# Altium schematic symbol library LARS_409_ACDC.SCHLIB: 4 symbols
Pins are listed as number, name and electrical type; pins without a type are passive.

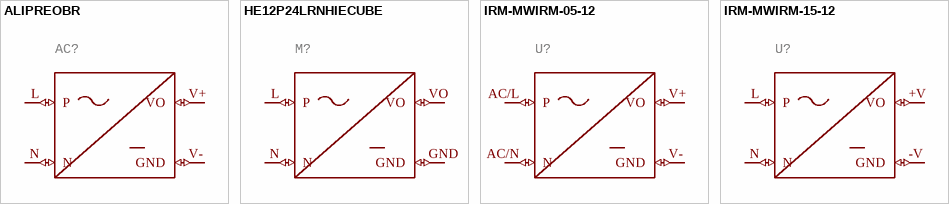
[diagram p0: symbols ALIPREOBR to IRM-MWIRM-15-12]

## ALIPREOBR
designator AC?
GateName_1: G$1; SymbolName_1: ACDC-4PIN; DeviceSetName: ALIPREOBR; LibraryName: LARS_409_ACDC; Package: ALI
footprint ALI
pins: L P (io), N (io), V+ VO (io), V- GND (io)

## HE12P24LRNHIECUBE
designator M?
GateName_1: G$1; SymbolName_1: ACDC-4PIN; DeviceName: HIECUBE; DeviceSetName: HE12P24LRN; LibraryName: LARS_409_ACDC; Package: HECUBE12P24LRN
footprint HECUBE12P24LRN
pins: GND (io), L P (io), N (io), VO (io)

## IRM-MWIRM-05-12
designator U?
GateName_1: G$1; SymbolName_1: ACDC-4PIN; DeviceName: IRM-05-12; DeviceSetName: IRM-MW; LibraryName: LARS_409_ACDC; Package: IRM-05-12
footprint IRM-05-12
pins: AC/L P (io), AC/N N (io), V+ VO (io), V- GND (io)

## IRM-MWIRM-15-12
designator U?
GateName_1: G$1; SymbolName_1: ACDC-4PIN; DeviceName: IRM-15-12; DeviceSetName: IRM-MW; LibraryName: LARS_409_ACDC; Package: IRM-15-12
footprint IRM-15-12
pins: +V VO (io), -V GND (io), L P (io), N (io)